# Altium footprint library PCB - SWITCH - WURTH WS-SLSU 450404015514.PcbLib: 1 footprints
Each footprint in its own frame and in the unit in brackets; x right, y up, seen from the top. Pads: shape width x height; smd on the part's side, far side on the other; paste and mask are expansions set on the pad; w line width, h text height; cw(c..) or ccw(c..) is an arc to the next point about the centre after c.
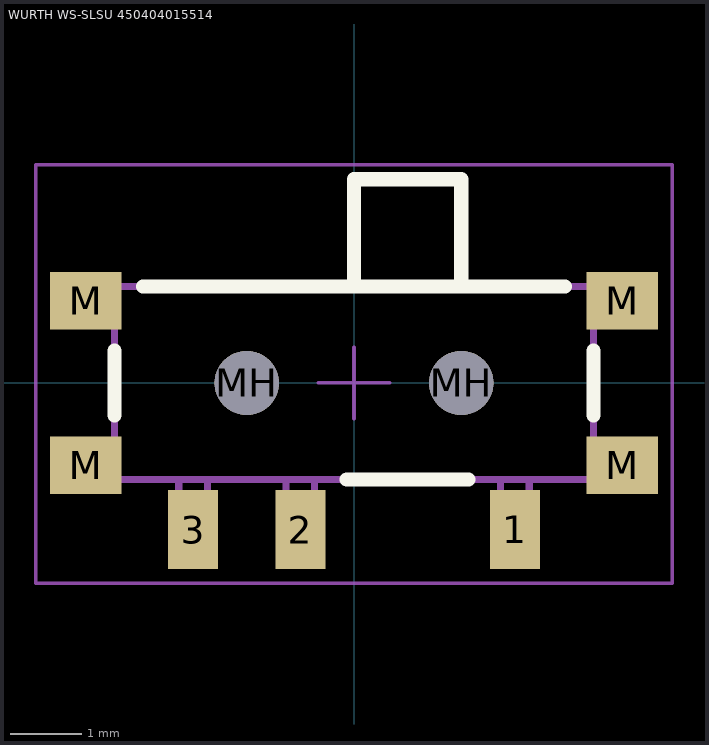
[diagram p0: the footprint, top view; thin cyan lines are the x and y axes]

## WURTH WS-SLSU 450404015514 [mm] "Right angle Slide Switch"
height 1.4
pads (9):
  rect 0.7x1.1 smd: 1(2.25,-2.05) 2(-0.75,-2.05) 3(-2.25,-2.05)
  rect 1x0.8 smd: M(-3.75,-1.15) M(-3.75,1.15) M(3.75,-1.15) M(3.75,1.15)
  round 0.9 hole 0.9 unplated: MH(-1.5,0) MH(1.5,0)
Top Overlay:
  lines w0.2: -3.35,-0.45 -3.35,0.45 ; -2.95,1.35 2.95,1.35 ; -0.1,-1.35 1.6,-1.35 ; 0,1.35 0,2.85 1.5,2.85 1.5,1.35 ; 3.35,-0.45 3.35,0.45
Top Component Outline:
  lines w0.1: -3.35,-1.25 -3.85,-1.25 -3.85,-0.85 -3.35,-0.85 ; -3.35,0.85 -3.85,0.85 -3.85,1.25 -3.35,1.25 ; -2.45,-1.35 -2.45,-2.25 -2.05,-2.25 -2.05,-1.35 ; -0.95,-1.35 -0.95,-2.25 -0.55,-2.25 -0.55,-1.35 ; 0,1.35 0,2.85 1.5,2.85 1.5,1.35 ; 2.05,-1.35 2.05,-2.25 2.45,-2.25 2.45,-1.35 ; 3.35,-1.25 3.85,-1.25 3.85,-0.85 3.35,-0.85 ; 3.35,0.85 3.85,0.85 3.85,1.25 3.35,1.25 ; -3.35,-1.35 3.35,-1.35 3.35,1.35 -3.35,1.35 -3.35,-1.35
Top Courtyard:
  lines w0.05: -0.5,0 0.5,0 ; 0,-0.5 0,0.5 ; -4.45,-2.8 -4.45,3.05 4.45,3.05 4.45,-2.8 -4.45,-2.8
3D body "450404015514.stp": height 1.4, standoff -0.5, extent -3.85,-2.25 3.85,2.88